# EAGLE library part 30P*-JMCS-G (library jst-jmc)
0.5mm Pitch SMT Board to Board Connector Source: http://www.jst-mfg.com/product/pdf/jpn/JMC.pdf http://www.jst-mfg.com/product/detail.php?series=147
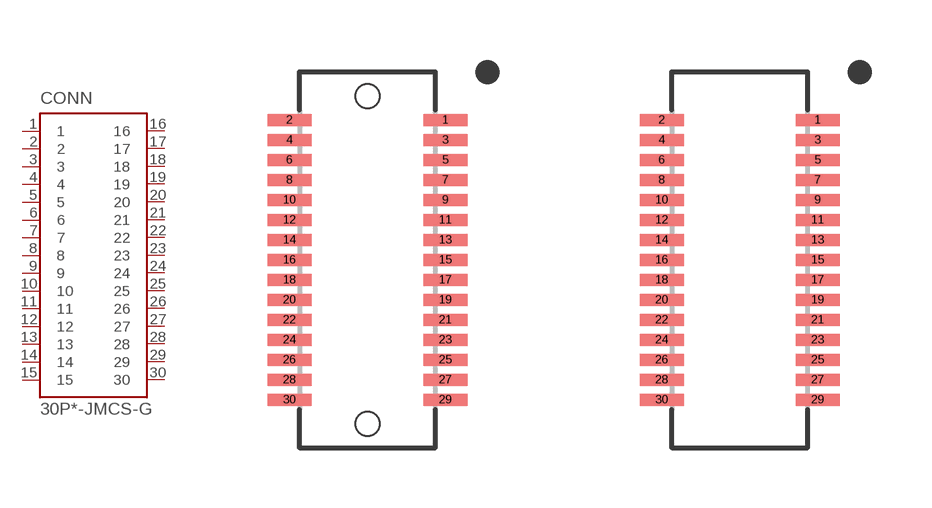
[diagram p4: symbol with the pads of 30P*-JMCS-G-B-TF; footprints 30P*-JMCS-G-B-TF, 30P*-JMCS-G-TF]

Designator prefix CONN

## 30P3.0-JMCS-G-B-TF, 30P3.5-JMCS-G-B-TF, 30P4.0-JMCS-G-B-TF, 30P6.5-JMCS-G-B-TF, 30P9.0-JMCS-G-B-TF  [30P*-JMCS-G-B-TF]
1  1
2  2
3  3
4  4
5  5
6  6
7  7
8  8
9  9
10  10
11  11
12  12
13  13
14  14
15  15
16  16
17  17
18  18
19  19
20  20
21  21
22  22
23  23
24  24
25  25
26  26
27  27
28  28
29  29
30  30

## 30P3.0-JMCS-G-TF, 30P3.5-JMCS-G-TF, 30P4.0-JMCS-G-TF, 30P6.5-JMCS-G-TF, 30P9.0-JMCS-G-TF  [30P*-JMCS-G-TF]
Pads as for 30P*-JMCS-G-B-TF

## Footprint 30P*-JMCS-G-B-TF (pad centres in mm)
smd 1.1 x 0.3: 1 1.95,3.5; 2 -1.95,3.5; 3 1.95,3; 4 -1.95,3; 5 1.95,2.5; 6 -1.95,2.5; 7 1.95,2; 8 -1.95,2; 9 1.95,1.5; 10 -1.95,1.5; 11 1.95,1; 12 -1.95,1; 13 1.95,0.5; 14 -1.95,0.5; 15 1.95,0; 16 -1.95,0; 17 1.95,-0.5; 18 -1.95,-0.5; 19 1.95,-1; 20 -1.95,-1; 21 1.95,-1.5; 22 -1.95,-1.5; 23 1.95,-2; 24 -1.95,-2; 25 1.95,-2.5; 26 -1.95,-2.5; 27 1.95,-3; 28 -1.95,-3; 29 1.95,-3.5; 30 -1.95,-3.5
hole 0.6 at 0,4.1
hole 0.6 at 0,-4.1

## Footprint 30P*-JMCS-G-TF (pad centres in mm)
smd 1.1 x 0.3: 1 1.95,3.5; 2 -1.95,3.5; 3 1.95,3; 4 -1.95,3; 5 1.95,2.5; 6 -1.95,2.5; 7 1.95,2; 8 -1.95,2; 9 1.95,1.5; 10 -1.95,1.5; 11 1.95,1; 12 -1.95,1; 13 1.95,0.5; 14 -1.95,0.5; 15 1.95,0; 16 -1.95,0; 17 1.95,-0.5; 18 -1.95,-0.5; 19 1.95,-1; 20 -1.95,-1; 21 1.95,-1.5; 22 -1.95,-1.5; 23 1.95,-2; 24 -1.95,-2; 25 1.95,-2.5; 26 -1.95,-2.5; 27 1.95,-3; 28 -1.95,-3; 29 1.95,-3.5; 30 -1.95,-3.5